# Altium schematic symbol library ESP8266_COLOCK.SchLib: 8 symbols
Pins are listed as number, name and electrical type; pins without a type are passive.

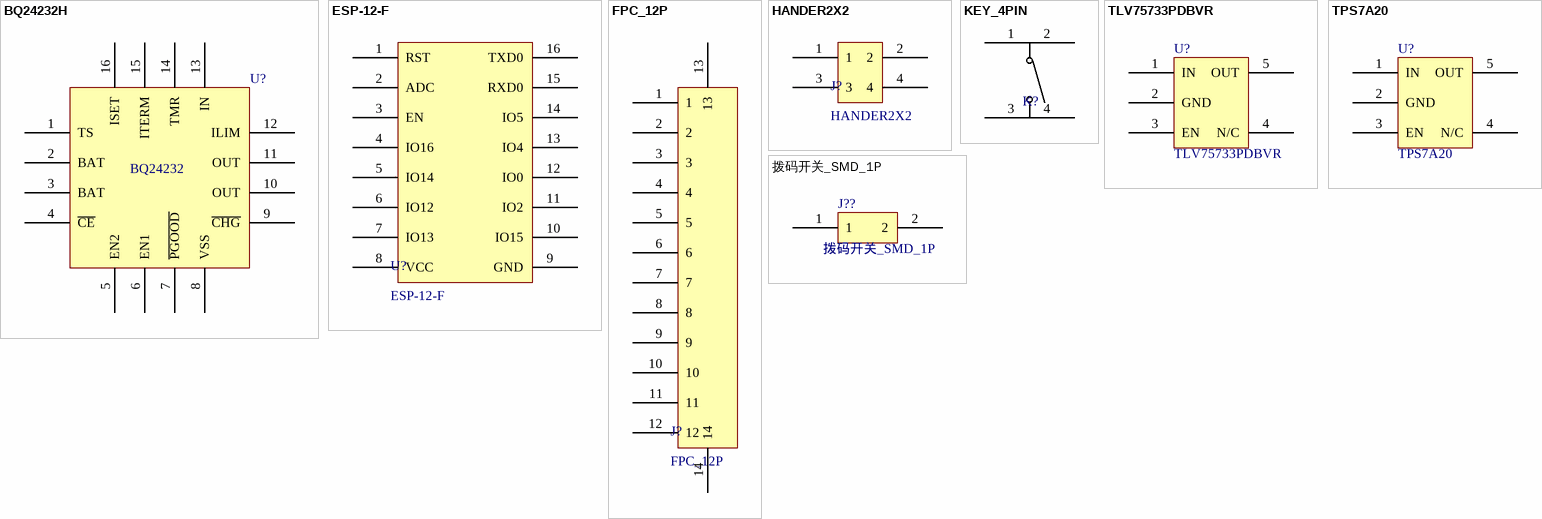
[diagram p0: symbols BQ24232H to 拨码开关_SMD_1P]

## BQ24232H
designator U?, comment BQ24232
电池管理芯片,4.35v; ComponentLink1Description: 数据手册; ComponentLink1URL: https://www.ti.com/cn/lit/gpn/bq24232h; ComponentLink2Description: 采购链接; ComponentLink2URL: https://item.szlcsc.com/602144.html
footprint VQFN-16
pins: 1 TS, 2 BAT, 3 BAT, 4 ~{CE}, 5 EN2, 6 EN1, 7 ~{PGOOD}, 8 VSS, 9 ~{CHG}, 10 OUT, 11 OUT, 12 ILIM, 13 IN, 14 TMR, 15 ITERM, 16 ISET

## ESP-12-F
designator U?
安信可ESP8266模组; ComponentLink1Description: New link; ComponentLink1URL: *
pins: 1 RST, 2 ADC, 3 EN, 4 IO16, 5 IO14, 6 IO12, 7 IO13, 8 VCC, 9 GND, 10 IO15, 11 IO2, 12 IO0, 13 IO4, 14 IO5, 15 RXD0, 16 TXD0

## FPC_12P
designator J?
FPC 0.5mm间距 12P 下接式; ComponentLink1Description: 采购链接; ComponentLink1URL: https://item.szlcsc.com/253920.html
pins: 1, 2, 3, 4, 5, 6, 7, 8, 9, 10, 11, 12, 13, 14

## HANDER2X2
designator J?
2*2排母弯插; ComponentLink1Description: 采购链接; ComponentLink1URL: https://item.szlcsc.com/3142427.html
pins: 1, 2, 3, 4

## KEY_4PIN
designator K?  (value not drawn)
乌龟按键; ComponentLink1Description: 采购链接; ComponentLink1URL: https://item.szlcsc.com/617095.html
pins: 1, 2, 3, 4

## TLV75733PDBVR
designator U?
低压差稳压芯片，1A; ComponentLink1Description: 数据手册; ComponentLink1URL: https://www.ti.com/cn/lit/ds/symlink/tps7a20.pdf?ts=1676462131252&ref_url=https%253A%252F%252Fso.szlcsc.com%252F
pins: 1 IN, 2 GND, 3 EN, 4 N/C, 5 OUT

## TPS7A20
designator U?
低压差稳压芯片; ComponentLink1Description: 数据手册; ComponentLink1URL: https://www.ti.com/cn/lit/ds/symlink/tps7a20.pdf?ts=1676462131252&ref_url=https%253A%252F%252Fso.szlcsc.com%252F
pins: 1 IN, 2 GND, 3 EN, 4 N/C, 5 OUT

## 拨码开关_SMD_1P
designator J??
ComponentLink1Description: 采购链接; ComponentLink1URL: https://item.szlcsc.com/55973.html
pins: 1, 2